# EAGLE library part L08P (library con-amp-mt)
AMP MT CONNECTOR
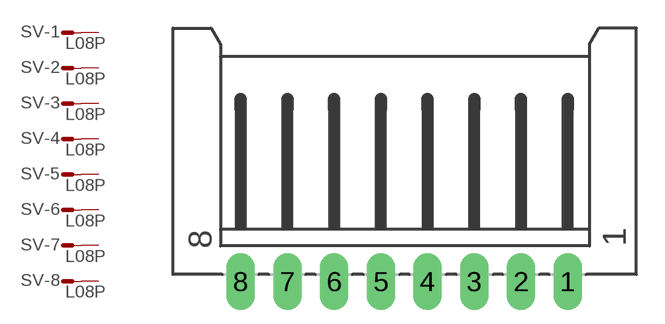
[diagram p3: symbol with the pads of L08P; footprint L08P]

Designator prefix SV; gates -1=M -2=M -3=M -4=M -5=M -6=M -7=M -8=M

## L08P (OC_FARNELL: unknown; OC_NEWARK: unknown)  [L08P]
1  -1:S  pas
2  -2:S  pas
3  -3:S  pas
4  -4:S  pas
5  -5:S  pas
6  -6:S  pas
7  -7:S  pas
8  -8:S  pas

## Footprint L08P (pad centres in mm)
AMP MT CONNECTOR
drill 1.016 long: 1 8.75,-6.25; 2 6.25,-6.25; 3 3.75,-6.25; 4 1.25,-6.25; 5 -1.25,-6.25; 6 -3.75,-6.25; 7 -6.25,-6.25; 8 -8.75,-6.25